# Altium schematic symbol library RES,180R,5%,0.25W,Axial,Thru.Schlib: 1 symbol
Pins are listed as number, name and electrical type; pins without a type are passive.

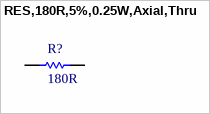
[diagram p0: symbol RES,180R,5%,0.25W,Axial,Thru]

## RES,180R,5%,0.25W,Axial,Thru
designator R?, comment 180R
180 Ohms ±5% 0.25W, 1/4W Through Hole Resistor Axial  Carbon Film
pins: 1, 2